# Altium footprint library WR-TBL_Pluggable Connector_5.00mm.PcbLib: 148 footprints (part 6 of 10)
Each footprint in its own frame and in the unit in brackets; x right, y up, seen from the top. Pads: shape width x height; smd on the part's side, far side on the other; paste and mask are expansions set on the pad; w line width, h text height; cw(c..) or ccw(c..) is an arc to the next point about the centre after c.
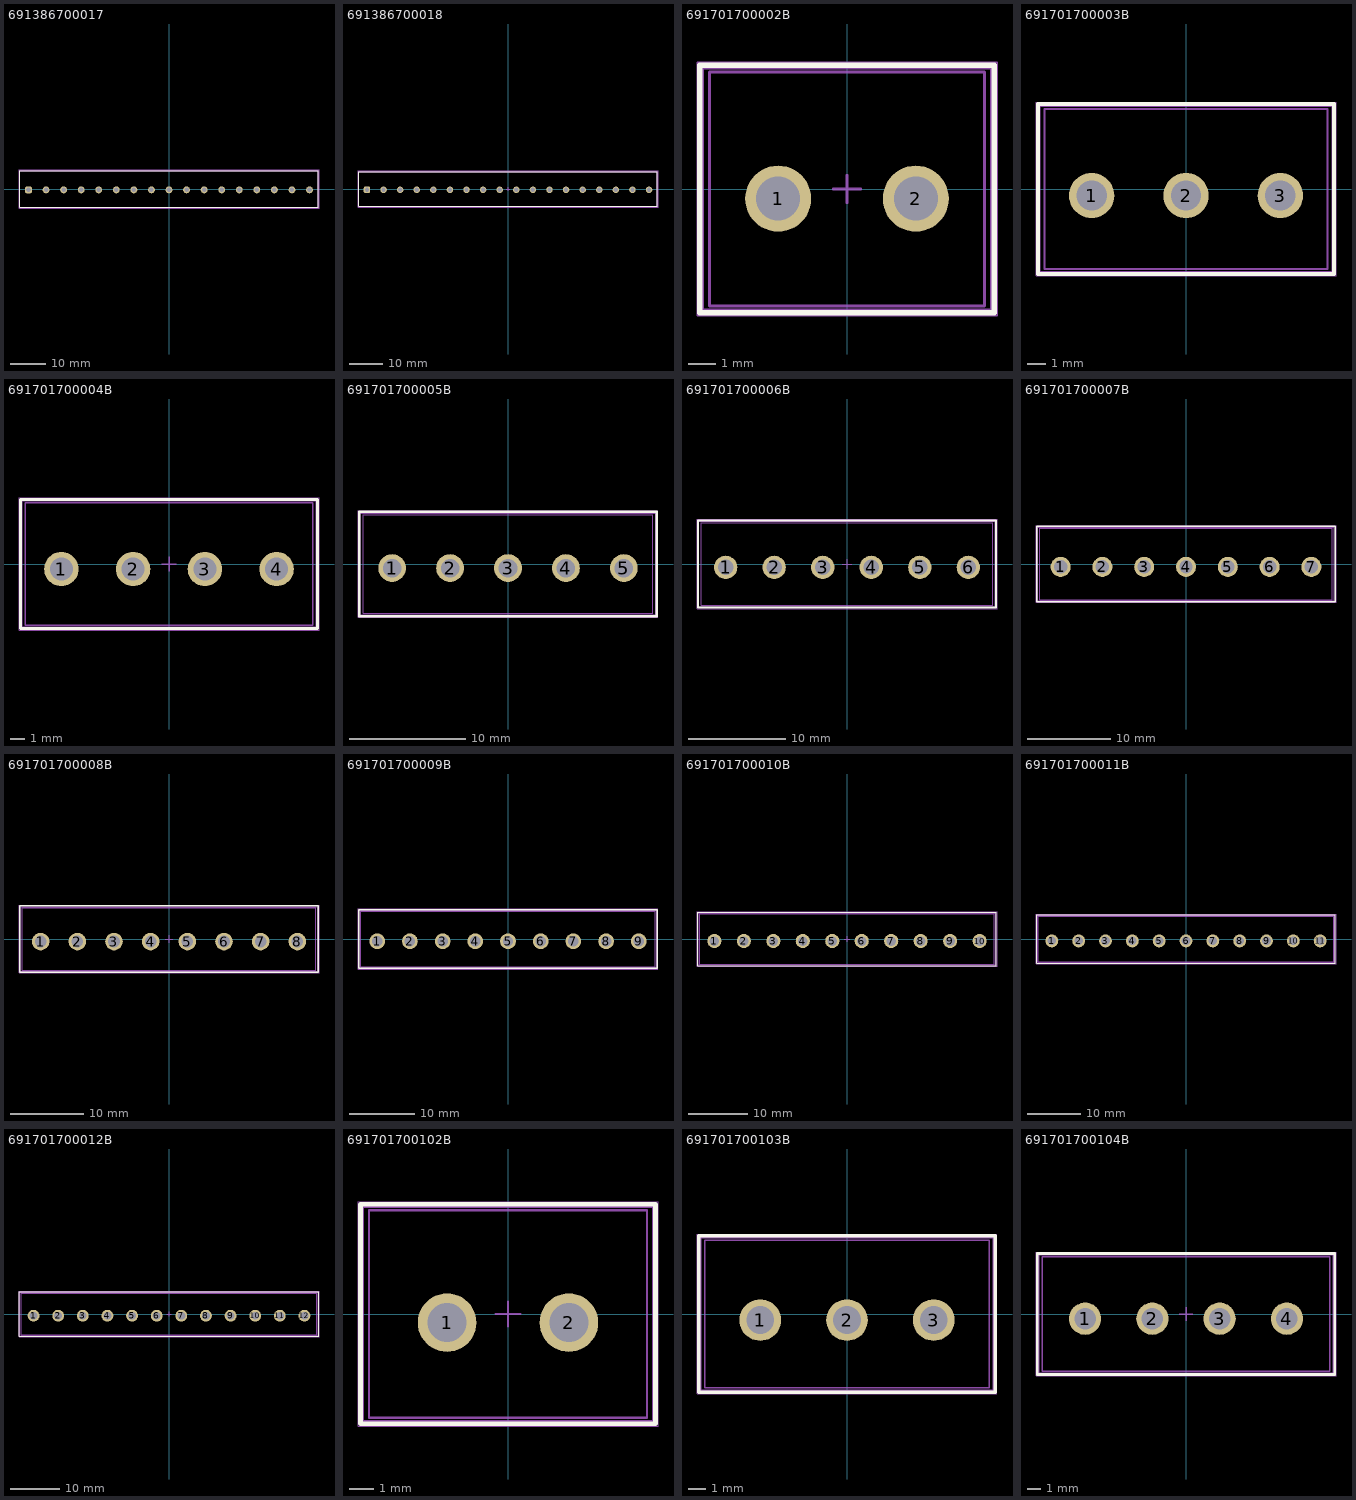
[diagram p5: the footprints below, top view; thin cyan lines are the x and y axes]

## 691386700017 [mm] "5.00mm - PCB Header ( Horizontal / Vertical ), 17p"
height 10.9
pads (17):
  rrect50% 1.95x1.95 hole 1.3: 1(-40,-0.25)
  round 1.95 hole 1.3: 2(-35,-0.25) 3(-30,-0.25) 4(-25,-0.25) 5(-20,-0.25) 6(-15,-0.25) 7(-10,-0.25) 8(-5,-0.25) 9(0,-0.25) 10(5,-0.25) 11(10,-0.25) 12(15,-0.25) 13(20,-0.25) 14(25,-0.25) 15(30,-0.25) 16(35,-0.25) 17(40,-0.25)
Top Overlay:
  lines w0.2: -42.5,-5.25 42.5,-5.25 42.5,5.25 -42.5,5.25 -42.5,-5.25
Top Assembly:
  lines w0.1: -42.5,-5.25 -42.5,5.25 42.5,5.25 42.5,-5.25 -42.5,-5.25
Top Designator:
  text ".Designator" at -3.647,-0.357 h1
Top 3D Body:
  lines w0.1: -42.5,-5.25 42.5,-5.25 42.5,5.25 -42.5,5.25 -42.5,-5.25
Top Courtyard:
  lines w0.05: -42.7,-5.45 -42.7,5.45 42.7,5.45 42.7,-5.45 -42.7,-5.45
Top Component Center:
  lines w0.1: -0.5,0 0.5,0 ; 0,-0.5 0,0.5
3D body "691386700017.stp": height 11, standoff -4, extent -42.5,-5.25 42.5,5.25

## 691386700018 [mm] "5.00mm - PCB Header ( Horizontal / Vertical ), 18p"
height 10.9
pads (18):
  rrect50% 1.95x1.95 hole 1.3: 1(-42.5,-0.25)
  round 1.95 hole 1.3: 2(-37.5,-0.25) 3(-32.5,-0.25) 4(-27.5,-0.25) 5(-22.5,-0.25) 6(-17.5,-0.25) 7(-12.5,-0.25) 8(-7.5,-0.25) 9(-2.5,-0.25) 10(2.5,-0.25) 11(7.5,-0.25) 12(12.5,-0.25) 13(17.5,-0.25) 14(22.5,-0.25) 15(27.5,-0.25) 16(32.5,-0.25) 17(37.5,-0.25) 18(42.5,-0.25)
Top Overlay:
  lines w0.2: -45,-5.25 -45,5.25 45,5.25 45,-5.25 -45,-5.25
Top Assembly:
  lines w0.1: -45,-5.25 45,-5.25 45,5.25 -45,5.25 -45,-5.25
Top Designator:
  text ".Designator" at -3.647,-0.357 h1
Top 3D Body:
  lines w0.1: -45,-5.25 -45,5.25 45,5.25 45,-5.25 -45,-5.25
Top Courtyard:
  lines w0.05: -45.2,-5.45 45.2,-5.45 45.2,5.45 -45.2,5.45 -45.2,-5.45
Top Component Center:
  lines w0.1: -0.5,0 0.5,0 ; 0,-0.5 0,0.5
3D body "691386700018.stp": height 11, standoff -4, extent -45,-5.25 45,5.25

## 691701700002B [mm] "5.00 mm Open Vertical PCB Header THR type, 02p"
height 12.3
pads (2):
  round 2.4 hole 1.6: 1(-2.5,-0.35) 2(2.5,-0.35)
Top Overlay:
  lines w0.2: -5.35,-4.5 -5.35,4.5 5.35,4.5 5.35,-4.5 -5.35,-4.5
Top Paste:
  region: -4.5,1.5 -0.5,1.5 -0.5,-2.2 -4.5,-2.2
  region: 0.5,1.5 4.5,1.5 4.5,-2.2 0.5,-2.2
Assembly Notes:
  text "Stencil thickness : 120 μm" at -5.156,-5.301 h1
Top Assembly:
  lines w0.1: -5.25,-4.4 -5.25,4.4 5.25,4.4 5.25,-4.4 -5.25,-4.4
Top Designator:
  text ".Designator" at -3.647,-0.357 h1
Top 3D Body:
  lines w0.1: -5,-4.25 5,-4.25 5,4.25 -5,4.25 -5,-4.25
Top Courtyard:
  lines w0.05: -5.45,-4.6 -5.45,4.6 5.45,4.6 5.45,-4.6 -5.45,-4.6
Top Component Center:
  lines w0.1: -0.5,0 0.5,0 ; 0,-0.5 0,0.5
3D body "691701700002B.stp": height 12.05, standoff -2.55, extent -5.08,-4.25 5.08,4.25

## 691701700003B [mm] "5.00 mm Open Vertical PCB Header THR type, 03p"
height 12.3
pads (3):
  round 2.4 hole 1.6: 1(-5,-0.35) 2(0,-0.35) 3(5,-0.35)
Top Overlay:
  lines w0.2: -7.85,-4.5 7.85,-4.5 7.85,4.5 -7.85,4.5 -7.85,-4.5
Top Paste:
  region: 3,1.5 7,1.5 7,-2.2 3,-2.2
  region: -7,1.5 -3,1.5 -3,-2.2 -7,-2.2
  region: -2,1.5 2,1.5 2,-2.2 -2,-2.2
Assembly Notes:
  text "Stencil thickness : 120 μm" at -5.156,-5.301 h1
Top Assembly:
  lines w0.1: -7.75,-4.4 7.75,-4.4 7.75,4.4 -7.75,4.4 -7.75,-4.4
Top Designator:
  text ".Designator" at -3.647,-0.357 h1
Top 3D Body:
  lines w0.1: -7.5,-4.25 -7.5,4.25 7.5,4.25 7.5,-4.25 -7.5,-4.25
Top Courtyard:
  lines w0.05: -7.95,-4.6 7.95,-4.6 7.95,4.6 -7.95,4.6 -7.95,-4.6
Top Component Center:
  lines w0.1: -0.5,0 0.5,0 ; 0,-0.5 0,0.5
3D body "691701700003B.stp": height 12.05, standoff -2.55, extent -7.5,-4.25 7.5,4.25

## 691701700004B [mm] "5.00 mm Open Vertical PCB Header THR type, 04p"
height 12.3
pads (4):
  round 2.4 hole 1.6: 1(-7.5,-0.35) 2(-2.5,-0.35) 3(2.5,-0.35) 4(7.5,-0.35)
Top Overlay:
  lines w0.2: -10.35,-4.5 10.35,-4.5 10.35,4.5 -10.35,4.5 -10.35,-4.5
Top Paste:
  region: 5.5,1.5 9.5,1.5 9.5,-2.2 5.5,-2.2
  region: 0.5,1.5 4.5,1.5 4.5,-2.2 0.5,-2.2
  region: -9.5,1.5 -5.5,1.5 -5.5,-2.2 -9.5,-2.2
  region: -4.5,1.5 -0.5,1.5 -0.5,-2.2 -4.5,-2.2
Assembly Notes:
  text "Stencil thickness : 120 μm" at -5.156,-5.301 h1
Top Assembly:
  lines w0.1: -10.25,-4.4 10.25,-4.4 10.25,4.4 -10.25,4.4 -10.25,-4.4
Top Designator:
  text ".Designator" at -3.647,-0.357 h1
Top 3D Body:
  lines w0.1: -10,-4.25 -10,4.25 10,4.25 10,-4.25 -10,-4.25
Top Courtyard:
  lines w0.05: -10.45,-4.6 10.45,-4.6 10.45,4.6 -10.45,4.6 -10.45,-4.6
Top Component Center:
  lines w0.1: -0.5,0 0.5,0 ; 0,-0.5 0,0.5
3D body "691701700004B.stp": height 12.05, standoff -2.55, extent -10,-4.25 10,4.25

## 691701700005B [mm] "5.00 mm Open Vertical PCB Header THR type, 05p"
height 12.3
pads (5):
  round 2.4 hole 1.6: 1(-10,-0.35) 2(-5,-0.35) 3(0,-0.35) 4(5,-0.35) 5(10,-0.35)
Top Overlay:
  lines w0.2: -12.85,-4.5 -12.85,4.5 12.85,4.5 12.85,-4.5 -12.85,-4.5
Top Paste:
  region: -7,1.5 -3,1.5 -3,-2.2 -7,-2.2
  region: -12,1.5 -8,1.5 -8,-2.2 -12,-2.2
  region: -2,1.5 2,1.5 2,-2.2 -2,-2.2
  region: 3,1.5 7,1.5 7,-2.2 3,-2.2
  region: 8,1.5 12,1.5 12,-2.2 8,-2.2
Assembly Notes:
  text "Stencil thickness : 120 μm" at -5.156,-5.301 h1
Top Assembly:
  lines w0.1: -12.75,-4.4 -12.75,4.4 12.75,4.4 12.75,-4.4 -12.75,-4.4
Top Designator:
  text ".Designator" at -3.647,-0.357 h1
Top 3D Body:
  lines w0.1: -12.5,-4.25 12.5,-4.25 12.5,4.25 -12.5,4.25 -12.5,-4.25
Top Courtyard:
  lines w0.05: -12.95,-4.6 -12.95,4.6 12.95,4.6 12.95,-4.6 -12.95,-4.6
Top Component Center:
  lines w0.1: -0.5,0 0.5,0 ; 0,-0.5 0,0.5
3D body "691701700005B.stp": height 12.05, standoff -2.55, extent -12.5,-4.25 12.5,4.25

## 691701700006B [mm] "5.00 mm Open Vertical PCB Header THR type, 06p"
height 12.3
pads (6):
  round 2.4 hole 1.6: 1(-12.5,-0.35) 2(-7.5,-0.35) 3(-2.5,-0.35) 4(2.5,-0.35) 5(7.5,-0.35) 6(12.5,-0.35)
Top Overlay:
  lines w0.2: -15.35,-4.5 15.35,-4.5 15.35,4.5 -15.35,4.5 -15.35,-4.5
Top Paste:
  region: 10.5,1.5 14.5,1.5 14.5,-2.2 10.5,-2.2
  region: 5.5,1.5 9.5,1.5 9.5,-2.2 5.5,-2.2
  region: 0.5,1.5 4.5,1.5 4.5,-2.2 0.5,-2.2
  region: -4.5,1.5 -0.5,1.5 -0.5,-2.2 -4.5,-2.2
  region: -14.5,1.5 -10.5,1.5 -10.5,-2.2 -14.5,-2.2
  region: -9.5,1.5 -5.5,1.5 -5.5,-2.2 -9.5,-2.2
Assembly Notes:
  text "Stencil thickness : 120 μm" at -5.156,-5.301 h1
Top Assembly:
  lines w0.1: -15.25,-4.4 15.25,-4.4 15.25,4.4 -15.25,4.4 -15.25,-4.4
Top Designator:
  text ".Designator" at -3.647,-0.357 h1
Top 3D Body:
  lines w0.1: -15,-4.25 -15,4.25 15,4.25 15,-4.25 -15,-4.25
Top Courtyard:
  lines w0.05: -15.45,-4.6 15.45,-4.6 15.45,4.6 -15.45,4.6 -15.45,-4.6
Top Component Center:
  lines w0.1: -0.5,0 0.5,0 ; 0,-0.5 0,0.5
3D body "691701700006B.stp": height 12.05, standoff -2.55, extent -15,-4.25 15,4.25

## 691701700007B [mm] "5.00 mm Open Vertical PCB Header THR type, 07p"
height 12.3
pads (7):
  round 2.4 hole 1.6: 1(-15,-0.35) 2(-10,-0.35) 3(-5,-0.35) 4(0,-0.35) 5(5,-0.35) 6(10,-0.35) 7(15,-0.35)
Top Overlay:
  lines w0.2: -17.85,-4.5 17.85,-4.5 17.85,4.5 -17.85,4.5 -17.85,-4.5
Top Paste:
  region: -12,1.5 -8,1.5 -8,-2.2 -12,-2.2
  region: -17,1.5 -13,1.5 -13,-2.2 -17,-2.2
  region: -7,1.5 -3,1.5 -3,-2.2 -7,-2.2
  region: -2,1.5 2,1.5 2,-2.2 -2,-2.2
  region: 3,1.5 7,1.5 7,-2.2 3,-2.2
  region: 8,1.5 12,1.5 12,-2.2 8,-2.2
  region: 13,1.5 17,1.5 17,-2.2 13,-2.2
Assembly Notes:
  text "Stencil thickness : 120 μm" at -5.156,-5.301 h1
Top Assembly:
  lines w0.1: -17.75,-4.4 17.75,-4.4 17.75,4.4 -17.75,4.4 -17.75,-4.4
Top Designator:
  text ".Designator" at -3.647,-0.357 h1
Top 3D Body:
  lines w0.1: -17.5,-4.25 -17.5,4.25 17.5,4.25 17.5,-4.25 -17.5,-4.25
Top Courtyard:
  lines w0.05: -17.95,-4.6 17.95,-4.6 17.95,4.6 -17.95,4.6 -17.95,-4.6
Top Component Center:
  lines w0.1: -0.5,0 0.5,0 ; 0,-0.5 0,0.5
3D body "691701700007B.stp": height 12.05, standoff -2.55, extent -17.5,-4.25 17.5,4.25

## 691701700008B [mm] "5.00 mm Open Vertical PCB Header THR type, 08p"
height 12.3
pads (8):
  round 2.4 hole 1.6: 1(-17.5,-0.35) 2(-12.5,-0.35) 3(-7.5,-0.35) 4(-2.5,-0.35) 5(2.5,-0.35) 6(7.5,-0.35) 7(12.5,-0.35) 8(17.5,-0.35)
Top Overlay:
  lines w0.2: -20.35,-4.5 -20.35,4.5 20.35,4.5 20.35,-4.5 -20.35,-4.5
Top Paste:
  region: 15.5,1.5 19.5,1.5 19.5,-2.2 15.5,-2.2
  region: 10.5,1.5 14.5,1.5 14.5,-2.2 10.5,-2.2
  region: 5.5,1.5 9.5,1.5 9.5,-2.2 5.5,-2.2
  region: 0.5,1.5 4.5,1.5 4.5,-2.2 0.5,-2.2
  region: -4.5,1.5 -0.5,1.5 -0.5,-2.2 -4.5,-2.2
  region: -9.5,1.5 -5.5,1.5 -5.5,-2.2 -9.5,-2.2
  region: -19.5,1.5 -15.5,1.5 -15.5,-2.2 -19.5,-2.2
  region: -14.5,1.5 -10.5,1.5 -10.5,-2.2 -14.5,-2.2
Assembly Notes:
  text "Stencil thickness : 120 μm" at -5.156,-5.301 h1
Top Assembly:
  lines w0.1: -20.25,-4.4 -20.25,4.4 20.25,4.4 20.25,-4.4 -20.25,-4.4
Top Designator:
  text ".Designator" at -3.647,-0.357 h1
Top 3D Body:
  lines w0.1: -20,-4.25 20,-4.25 20,4.25 -20,4.25 -20,-4.25
Top Courtyard:
  lines w0.05: -20.45,-4.6 -20.45,4.6 20.45,4.6 20.45,-4.6 -20.45,-4.6
Top Component Center:
  lines w0.1: -0.5,0 0.5,0 ; 0,-0.5 0,0.5
3D body "691701700008B.stp": height 12.05, standoff -2.55, extent -20,-4.25 20,4.25

## 691701700009B [mm] "5.00 mm Open Vertical PCB Header THR type, 09p"
height 12.3
pads (9):
  round 2.4 hole 1.6: 1(-20,-0.35) 2(-15,-0.35) 3(-10,-0.35) 4(-5,-0.35) 5(0,-0.35) 6(5,-0.35) 7(10,-0.35) 8(15,-0.35) 9(20,-0.35)
Top Overlay:
  lines w0.2: -22.85,-4.5 22.85,-4.5 22.85,4.5 -22.85,4.5 -22.85,-4.5
Top Paste:
  region: -17,1.5 -13,1.5 -13,-2.2 -17,-2.2
  region: -22,1.5 -18,1.5 -18,-2.2 -22,-2.2
  region: -12,1.5 -8,1.5 -8,-2.2 -12,-2.2
  region: -7,1.5 -3,1.5 -3,-2.2 -7,-2.2
  region: -2,1.5 2,1.5 2,-2.2 -2,-2.2
  region: 3,1.5 7,1.5 7,-2.2 3,-2.2
  region: 8,1.5 12,1.5 12,-2.2 8,-2.2
  region: 13,1.5 17,1.5 17,-2.2 13,-2.2
  region: 18,1.5 22,1.5 22,-2.2 18,-2.2
Assembly Notes:
  text "Stencil thickness : 120 μm" at -5.156,-5.301 h1
Top Assembly:
  lines w0.1: -22.75,-4.4 22.75,-4.4 22.75,4.4 -22.75,4.4 -22.75,-4.4
Top Designator:
  text ".Designator" at -3.647,-0.357 h1
Top 3D Body:
  lines w0.1: -22.5,-4.25 -22.5,4.25 22.5,4.25 22.5,-4.25 -22.5,-4.25
Top Courtyard:
  lines w0.05: -22.95,-4.6 22.95,-4.6 22.95,4.6 -22.95,4.6 -22.95,-4.6
Top Component Center:
  lines w0.1: -0.5,0 0.5,0 ; 0,-0.5 0,0.5
3D body "691701700009B.stp": height 12.05, standoff -2.55, extent -22.5,-4.25 22.5,4.25

## 691701700010B [mm] "5.00 mm Open Vertical PCB Header THR type, 10p"
height 12.3
pads (10):
  round 2.4 hole 1.6: 1(-22.5,-0.35) 2(-17.5,-0.35) 3(-12.5,-0.35) 4(-7.5,-0.35) 5(-2.5,-0.35) 6(2.5,-0.35) 7(7.5,-0.35) 8(12.5,-0.35) 9(17.5,-0.35) 10(22.5,-0.35)
Top Overlay:
  lines w0.2: -25.35,-4.5 25.35,-4.5 25.35,4.5 -25.35,4.5 -25.35,-4.5
Top Paste:
  region: -19.5,1.5 -15.5,1.5 -15.5,-2.2 -19.5,-2.2
  region: -24.5,1.5 -20.5,1.5 -20.5,-2.2 -24.5,-2.2
  region: -14.5,1.5 -10.5,1.5 -10.5,-2.2 -14.5,-2.2
  region: -9.5,1.5 -5.5,1.5 -5.5,-2.2 -9.5,-2.2
  region: -4.5,1.5 -0.5,1.5 -0.5,-2.2 -4.5,-2.2
  region: 0.5,1.5 4.5,1.5 4.5,-2.2 0.5,-2.2
  region: 5.5,1.5 9.5,1.5 9.5,-2.2 5.5,-2.2
  region: 10.5,1.5 14.5,1.5 14.5,-2.2 10.5,-2.2
  region: 15.5,1.5 19.5,1.5 19.5,-2.2 15.5,-2.2
  region: 20.5,1.5 24.5,1.5 24.5,-2.2 20.5,-2.2
Assembly Notes:
  text "Stencil thickness : 120 μm" at -5.156,-5.301 h1
Top Assembly:
  lines w0.1: -25.25,-4.4 25.25,-4.4 25.25,4.4 -25.25,4.4 -25.25,-4.4
Top Designator:
  text ".Designator" at -3.647,-0.357 h1
Top 3D Body:
  lines w0.1: -25,-4.25 -25,4.25 25,4.25 25,-4.25 -25,-4.25
Top Courtyard:
  lines w0.05: -25.45,-4.6 25.45,-4.6 25.45,4.6 -25.45,4.6 -25.45,-4.6
Top Component Center:
  lines w0.1: -0.5,0 0.5,0 ; 0,-0.5 0,0.5
3D body "691701700010B.stp": height 12.05, standoff -2.55, extent -25,-4.25 25,4.25

## 691701700011B [mm] "5.00 mm Open Vertical PCB Header THR type, 11p"
height 12.3
pads (11):
  round 2.4 hole 1.6: 1(-25,-0.35) 2(-20,-0.35) 3(-15,-0.35) 4(-10,-0.35) 5(-5,-0.35) 6(0,-0.35) 7(5,-0.35) 8(10,-0.35) 9(15,-0.35) 10(20,-0.35) 11(25,-0.35)
Top Overlay:
  lines w0.2: -27.85,-4.5 27.85,-4.5 27.85,4.5 -27.85,4.5 -27.85,-4.5
Top Paste:
  region: -22,1.5 -18,1.5 -18,-2.2 -22,-2.2
  region: -27,1.5 -23,1.5 -23,-2.2 -27,-2.2
  region: -17,1.5 -13,1.5 -13,-2.2 -17,-2.2
  region: -12,1.5 -8,1.5 -8,-2.2 -12,-2.2
  region: -7,1.5 -3,1.5 -3,-2.2 -7,-2.2
  region: -2,1.5 2,1.5 2,-2.2 -2,-2.2
  region: 3,1.5 7,1.5 7,-2.2 3,-2.2
  region: 8,1.5 12,1.5 12,-2.2 8,-2.2
  region: 13,1.5 17,1.5 17,-2.2 13,-2.2
  region: 18,1.5 22,1.5 22,-2.2 18,-2.2
  region: 23,1.5 27,1.5 27,-2.2 23,-2.2
Assembly Notes:
  text "Stencil thickness : 120 μm" at -5.156,-5.301 h1
Top Assembly:
  lines w0.1: -27.75,-4.4 27.75,-4.4 27.75,4.4 -27.75,4.4 -27.75,-4.4
Top Designator:
  text ".Designator" at -3.647,-0.357 h1
Top 3D Body:
  lines w0.1: -27.5,-4.25 -27.5,4.25 27.5,4.25 27.5,-4.25 -27.5,-4.25
Top Courtyard:
  lines w0.05: -27.95,-4.6 27.95,-4.6 27.95,4.6 -27.95,4.6 -27.95,-4.6
Top Component Center:
  lines w0.1: -0.5,0 0.5,0 ; 0,-0.5 0,0.5
3D body "691701700011B.stp": height 12.05, standoff -2.55, extent -27.5,-4.25 27.5,4.25

## 691701700012B [mm] "5.00 mm Open Vertical PCB Header THR type, 12p"
height 12.3
pads (12):
  round 2.4 hole 1.6: 1(-27.5,-0.35) 2(-22.5,-0.35) 3(-17.5,-0.35) 4(-12.5,-0.35) 5(-7.5,-0.35) 6(-2.5,-0.35) 7(2.5,-0.35) 8(7.5,-0.35) 9(12.5,-0.35) 10(17.5,-0.35) 11(22.5,-0.35) 12(27.5,-0.35)
Top Overlay:
  lines w0.2: -30.35,-4.5 30.35,-4.5 30.35,4.5 -30.35,4.5 -30.35,-4.5
Top Paste:
  region: 25.5,1.5 29.5,1.5 29.5,-2.2 25.5,-2.2
  region: 20.5,1.5 24.5,1.5 24.5,-2.2 20.5,-2.2
  region: 15.5,1.5 19.5,1.5 19.5,-2.2 15.5,-2.2
  region: 10.5,1.5 14.5,1.5 14.5,-2.2 10.5,-2.2
  region: 5.5,1.5 9.5,1.5 9.5,-2.2 5.5,-2.2
  region: 0.5,1.5 4.5,1.5 4.5,-2.2 0.5,-2.2
  region: -4.5,1.5 -0.5,1.5 -0.5,-2.2 -4.5,-2.2
  region: -9.5,1.5 -5.5,1.5 -5.5,-2.2 -9.5,-2.2
  region: -14.5,1.5 -10.5,1.5 -10.5,-2.2 -14.5,-2.2
  region: -19.5,1.5 -15.5,1.5 -15.5,-2.2 -19.5,-2.2
  region: -29.5,1.5 -25.5,1.5 -25.5,-2.2 -29.5,-2.2
  region: -24.5,1.5 -20.5,1.5 -20.5,-2.2 -24.5,-2.2
Assembly Notes:
  text "Stencil thickness : 120 μm" at -5.156,-5.301 h1
Top Assembly:
  lines w0.1: -30.25,-4.4 30.25,-4.4 30.25,4.4 -30.25,4.4 -30.25,-4.4
Top Designator:
  text ".Designator" at -3.647,-0.357 h1
Top 3D Body:
  lines w0.1: -30,-4.25 -30,4.25 30,4.25 30,-4.25 -30,-4.25
Top Courtyard:
  lines w0.05: -30.45,-4.6 30.45,-4.6 30.45,4.6 -30.45,4.6 -30.45,-4.6
Top Component Center:
  lines w0.1: -0.5,0 0.5,0 ; 0,-0.5 0,0.5
3D body "691701700012B.stp": height 12.05, standoff -2.55, extent -30,-4.25 30,4.25

## 691701700102B [mm] "5.00 mm Closed Vertical PCB Header THR type, 02p"
height 12
pads (2):
  round 2.4 hole 1.6: 1(-2.5,-0.35) 2(2.5,-0.35)
Top Overlay:
  lines w0.2: -6.05,-4.5 6.05,-4.5 6.05,4.5 -6.05,4.5 -6.05,-4.5
Top Paste:
  region: -4.5,1.5 -0.5,1.5 -0.5,-2.2 -4.5,-2.2
  region: 0.5,1.5 4.5,1.5 4.5,-2.2 0.5,-2.2
Assembly Notes:
  text "Stencil thickness : 120 μm" at -5.156,-5.301 h1
Top Assembly:
  lines w0.1: -5.95,-4.4 5.95,-4.4 5.95,4.4 -5.95,4.4 -5.95,-4.4
Top Designator:
  text ".Designator" at -3.647,-0.357 h1
Top 3D Body:
  lines w0.1: -5.7,-4.25 -5.7,4.25 5.7,4.25 5.7,-4.25 -5.7,-4.25
Top Courtyard:
  lines w0.05: -6.15,-4.6 -6.15,4.6 6.15,4.6 6.15,-4.6 -6.15,-4.6
Top Component Center:
  lines w0.1: -0.5,0 0.5,0 ; 0,-0.5 0,0.5
3D body "691701700102B.stp": height 12.05, standoff -2.55, extent -5.7,-4.25 5.7,4.25

## 691701700103B [mm] "5.00 mm Closed Vertical PCB Header THR type, 03p"
height 12
pads (3):
  round 2.4 hole 1.6: 1(-5,-0.35) 2(0,-0.35) 3(5,-0.35)
Top Overlay:
  lines w0.2: -8.55,-4.5 -8.55,4.5 8.55,4.5 8.55,-4.5 -8.55,-4.5
Top Paste:
  region: 3,1.5 7,1.5 7,-2.2 3,-2.2
  region: -7,1.5 -3,1.5 -3,-2.2 -7,-2.2
  region: -2,1.5 2,1.5 2,-2.2 -2,-2.2
Assembly Notes:
  text "Stencil thickness : 120 μm" at -5.156,-5.301 h1
Top Assembly:
  lines w0.1: -8.45,-4.4 -8.45,4.4 8.45,4.4 8.45,-4.4 -8.45,-4.4
Top Designator:
  text ".Designator" at -3.647,-0.357 h1
Top 3D Body:
  lines w0.1: -8.2,-4.25 8.2,-4.25 8.2,4.25 -8.2,4.25 -8.2,-4.25
Top Courtyard:
  lines w0.05: -8.65,-4.6 8.65,-4.6 8.65,4.6 -8.65,4.6 -8.65,-4.6
Top Component Center:
  lines w0.1: -0.5,0 0.5,0 ; 0,-0.5 0,0.5
3D body "691701700103B.stp": height 12.05, standoff -2.55, extent -8.2,-4.25 8.2,4.25

## 691701700104B [mm] "5.00 mm Closed Vertical PCB Header THR type, 04p"
height 12
pads (4):
  round 2.4 hole 1.6: 1(-7.5,-0.35) 2(-2.5,-0.35) 3(2.5,-0.35) 4(7.5,-0.35)
Top Overlay:
  lines w0.2: -11.05,-4.5 -11.05,4.5 11.05,4.5 11.05,-4.5 -11.05,-4.5
Top Paste:
  region: 0.5,1.5 4.5,1.5 4.5,-2.2 0.5,-2.2
  region: -9.5,1.5 -5.5,1.5 -5.5,-2.2 -9.5,-2.2
  region: -4.5,1.5 -0.5,1.5 -0.5,-2.2 -4.5,-2.2
  region: 5.5,1.5 9.5,1.5 9.5,-2.2 5.5,-2.2
Assembly Notes:
  text "Stencil thickness : 120 μm" at -5.156,-5.301 h1
Top Assembly:
  lines w0.1: -10.95,-4.4 -10.95,4.4 10.95,4.4 10.95,-4.4 -10.95,-4.4
Top Designator:
  text ".Designator" at -3.647,-0.357 h1
Top 3D Body:
  lines w0.1: -10.7,-4.25 10.7,-4.25 10.7,4.25 -10.7,4.25 -10.7,-4.25
Top Courtyard:
  lines w0.05: -11.15,-4.6 11.15,-4.6 11.15,4.6 -11.15,4.6 -11.15,-4.6
Top Component Center:
  lines w0.1: -0.5,0 0.5,0 ; 0,-0.5 0,0.5
3D body "691701700104B.stp": height 12.05, standoff -2.55, extent -10.7,-4.25 10.7,4.25